# EAGLE library part HEADER-2X3-B2B-MALE (library old-4ms-main-parts)
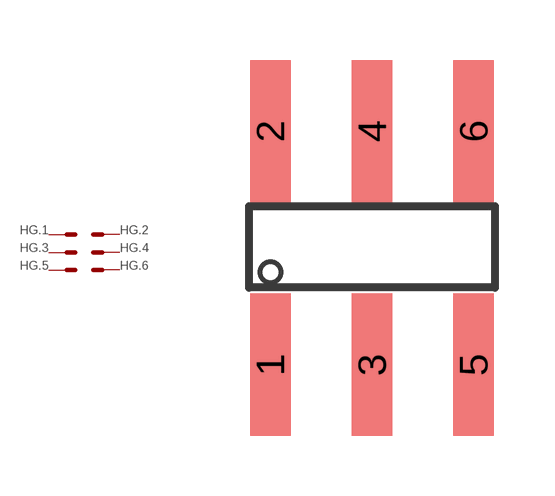
[diagram p6: symbol with the pads of HEADER-2X3-SMT; footprint HEADER-2X3-SMT]

Designator prefix H; gates G.1=HEADER-PIN-M G.3=HEADER-PIN-M G.5=HEADER-PIN-M G.2=HEADER-PIN-M-FLIPPED G.4=HEADER-PIN-M-FLIPPED G.6=HEADER-PIN-M-FLIPPED

## HEADER-2X3-B2B-MALESMT  [HEADER-2X3-SMT]
1  G.1:S  pas
2  G.2:S  pas
3  G.3:S  pas
4  G.4:S  pas
5  G.5:S  pas
6  G.6:S  pas

## Footprint HEADER-2X3-SMT (pad centres in mm)
smd 1.016 x 3.556: 1 -2.54,-2.95; 2 -2.54,2.899; 3 0,-2.95; 4 0,2.899; 5 2.54,-2.95; 6 2.54,2.899